# EAGLE library part JAL-IMX135_CAMERA_MODULE (library m_opto)
JAL-IMX135-A178B SONY IMX135 13MP Camera Module with MIPI Interface and Auto Focus Module Characteristics: Camera Module No. JAL-IMX135-A178B Image Sensor IMX135 EFL 2.94 mm F.NO 2.4 Pixel 3136 x 4224 View Angle 77.6° Lens Type 1/3.06 inch Lens Dimensions 8.6 x 8.5 x 5.25 mm Module Size 17.77 x 10 mm Module Type Auto Focus Interface 4-Lane MIPI Mating Connector: 24-5804-030-000-829 Data based on Kai Lap Technologies drawing dated 2014-10-24, version 1.0 Added 2016-08-10.
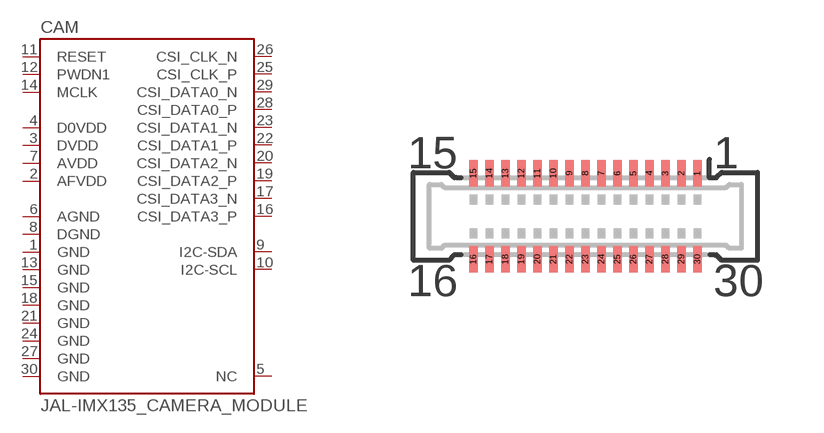
[diagram p5: symbol with the pads of 24-5804-030; footprint 24-5804-030]

Designator prefix CAM

## JAL-IMX135_CAMERA_MODULE (MANUF: Kai Lap Technologies; PARTNUM: JAP-IMX135-A178B)  [24-5804-030]
1  GND  pas
2  AFVDD  pas
3  DVDD  pas
4  D0VDD  pas
5  NC  pas
6  AGND  pas
7  AVDD  pas
8  DGND  pas
9  I2C-SDA  pas
10  I2C-SCL  pas
11  RESET  pas
12  PWDN1  pas
13  GND  pas
14  MCLK  pas
15  GND  pas
16  CSI_DATA3_P  pas
17  CSI_DATA3_N  pas
18  GND  pas
19  CSI_DATA2_P  pas
20  CSI_DATA2_N  pas
21  GND  pas
22  CSI_DATA1_P  pas
23  CSI_DATA1_N  pas
24  GND  pas
25  CSI_CLK_P  pas
26  CSI_CLK_N  pas
27  GND  pas
28  CSI_DATA0_P  pas
29  CSI_DATA0_N  pas
30  GND  pas

## Footprint 24-5804-030 (pad centres in mm)
5804 Series SMT Receptacle, dual-row, 0.4mm pitch, 30 conductor
smd 0.23 x 0.65: 1 2.8,1.075; 2 2.4,1.075; 3 2,1.075; 4 1.6,1.075; 5 1.2,1.075; 6 0.8,1.075; 7 0.4,1.075; 8 0,1.075; 9 -0.4,1.075; 10 -0.8,1.075; 11 -1.2,1.075; 12 -1.6,1.075; 13 -2,1.075; 14 -2.4,1.075; 15 -2.8,1.075; 16 -2.8,-1.075; 17 -2.4,-1.075; 18 -2,-1.075; 19 -1.6,-1.075; 20 -1.2,-1.075; 21 -0.8,-1.075; 22 -0.4,-1.075; 23 0,-1.075; 24 0.4,-1.075; 25 0.8,-1.075; 26 1.2,-1.075; 27 1.6,-1.075; 28 2,-1.075; 29 2.4,-1.075; 30 2.8,-1.075